# Altium footprint library TXB0108.PcbLib: 1 footprints
Each footprint in its own frame and in the unit in brackets; x right, y up, seen from the top. Pads: shape width x height; smd on the part's side, far side on the other; paste and mask are expansions set on the pad; w line width, h text height; cw(c..) or ccw(c..) is an arc to the next point about the centre after c.
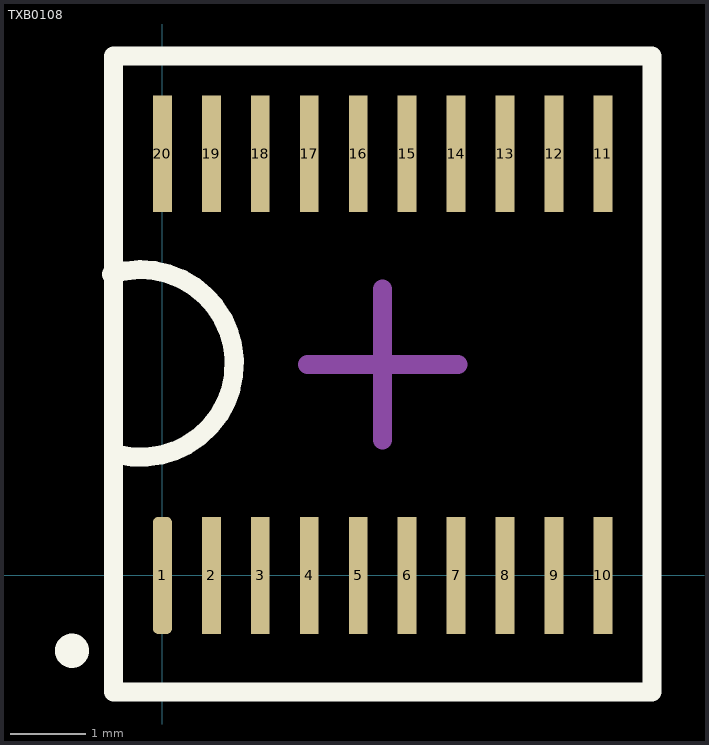
[diagram p0: the footprint, top view; thin cyan lines are the x and y axes]

## TXB0108 [mm] "TSSOP"
pads (20):
  rrect50% 0.25x1.55 smd: 1(0,0)
  rect 0.25x1.55 smd: 2(0.65,0) 3(1.3,0) 4(1.95,0) 5(2.6,0) 6(3.25,0) 7(3.9,0) 8(4.55,0) 9(5.2,0) 10(5.85,0) 11(5.85,5.6) 12(5.2,5.6) 13(4.55,5.6) 14(3.9,5.6) 15(3.25,5.6) 16(2.6,5.6) 17(1.95,5.6) 18(1.3,5.6) 19(0.65,5.6) 20(0,5.6)
Top Overlay:
  circle w0.254: c-1.2,-1 r0.1
  lines w0.254: -0.675,4 cw(c-0.291,2.815) -0.593,1.606 ; -0.65,-1.55 -0.65,6.9 6.5,6.9 6.5,-1.55 -0.65,-1.55
Mechanical 15:
  lines w0.254: 1.925,2.8 3.925,2.8 ; 2.925,1.8 2.925,3.8 2.925,1.8
3D body "TSSOP-20.step": height 1.2, standoff 0, extent -0.6,-8.775 6,-2.225